# Altium schematic symbol library ICs_Symbol.SchLib: 10 symbols
Pins are listed as number, name and electrical type; pins without a type are passive.

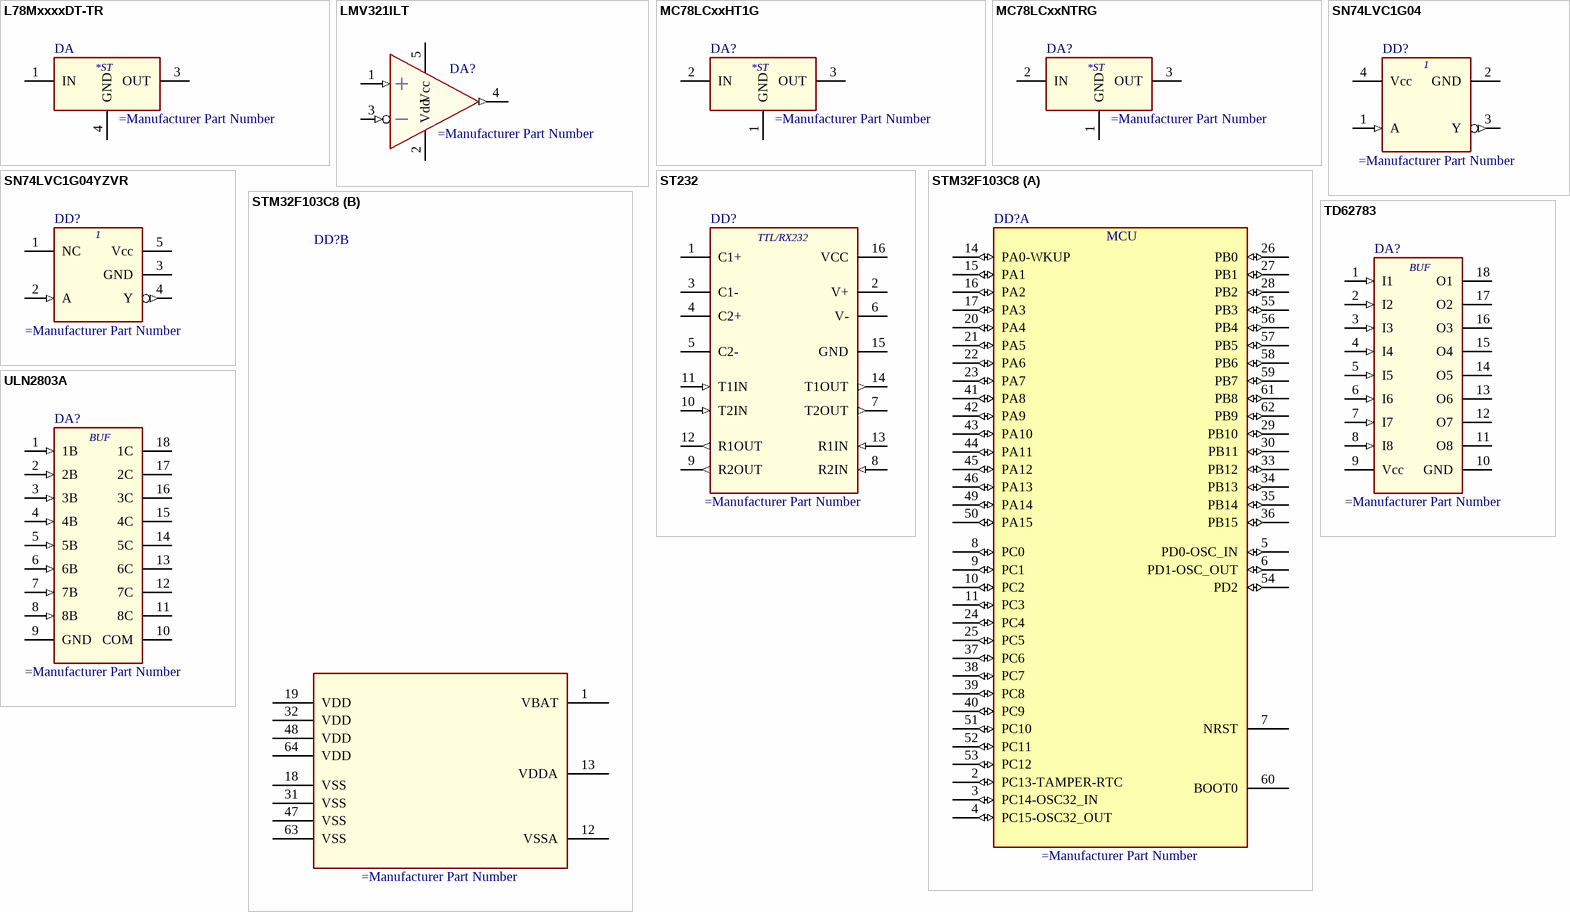
[diagram p0: symbols L78MxxxxDT-TR to ULN2803A]

## L78MxxxxDT-TR
designator DA
pins: 1 IN (power), 3 OUT (power), 4 GND (power)
text: *ST

## LMV321ILT
designator DA?
pins: 1 +IN (in), 2 Vdd (power), 3 -IN (in), 4 OUT (out), 5 Vcc (power)

## MC78LCxxHT1G
designator DA?
pins: 1 GND (power), 2 IN (power), 3 OUT (power)
text: *ST

## MC78LCxxNTRG
designator DA?
pins: 1 GND (power), 2 IN (power), 3 OUT (power)
text: *ST

## SN74LVC1G04
designator DD?
pins: 1 A (in), 2 GND (power), 3 Y (out), 4 Vcc (power)

## SN74LVC1G04YZVR
designator DD?
pins: 1 NC, 2 A (in), 3 GND (power), 4 Y (out), 5 Vcc (power)

## ST232
designator DD?
pins: 1 C1+, 2 V+, 3 C1-, 4 C2+, 5 C2-, 6 V-, 7 T2OUT (out), 8 R2IN (in), 9 R2OUT (out), 10 T2IN (in), 11 T1IN (in), 12 R1OUT (out), 13 R1IN (in), 14 T1OUT (out), 15 GND (power), 16 VCC (power)
text: TTL/RX232

## STM32F103C8
designator DD?
part A pins: 2 PC13-TAMPER-RTC (io), 3 PC14-OSC32_IN (io), 4 PC15-OSC32_OUT (io), 5 PD0-OSC_IN (io), 6 PD1-OSC_OUT (io), 7 NRST, 8 PC0 (io), 9 PC1 (io), 10 PC2 (io), 11 PC3 (io), 14 PA0-WKUP (io), 15 PA1 (io), 16 PA2 (io), 17 PA3 (io), 20 PA4 (io), 21 PA5 (io), 22 PA6 (io), 23 PA7 (io), 24 PC4 (io), 25 PC5 (io), 26 PB0 (io), 27 PB1 (io), 28 PB2 (io), 29 PB10 (io), 30 PB11 (io), 33 PB12 (io), 34 PB13 (io), 35 PB14 (io), 36 PB15 (io), 37 PC6 (io), 38 PC7 (io), 39 PC8 (io), 40 PC9 (io), 41 PA8 (io), 42 PA9 (io), 43 PA10 (io), 44 PA11 (io), 45 PA12 (io), 46 PA13 (io), 49 PA14 (io), 50 PA15 (io), 51 PC10 (io), 52 PC11 (io), 53 PC12 (io), 54 PD2 (io), 55 PB3 (io), 56 PB4 (io), 57 PB5 (io), 58 PB6 (io), 59 PB7 (io), 60 BOOT0, 61 PB8 (io), 62 PB9 (io)
part B pins: 1 VBAT (power), 12 VSSA (power), 13 VDDA (power), 18 VSS (power), 19 VDD (power), 31 VSS (power), 32 VDD (power), 47 VSS (power), 48 VDD (power), 63 VSS (power), 64 VDD (power)
part A text: MCU

## TD62783
designator DA?
pins: 1 I1 (in), 2 I2 (in), 3 I3 (in), 4 I4 (in), 5 I5 (in), 6 I6 (in), 7 I7 (in), 8 I8 (in), 9 Vcc (power), 10 GND (power), 11 O8 (oe), 12 O7 (oe), 13 O6 (oe), 14 O5 (oe), 15 O4 (oe), 16 O3 (oe), 17 O2 (oe), 18 O1 (oe)
text: BUF

## ULN2803A
designator DA?
pins: 1 1B (in), 2 2B (in), 3 3B (in), 4 4B (in), 5 5B (in), 6 6B (in), 7 7B (in), 8 8B (in), 9 GND (power), 10 COM (power), 11 8C (oc), 12 7C (oc), 13 6C (oc), 14 5C (oc), 15 4C (oc), 16 3C (oc), 17 2C (oc), 18 1C (oc)
text: BUF